# Altium schematic symbol library ECE Lib 22.SCHLIB: 58 symbols
Pins are listed as number, name and electrical type; pins without a type are passive.

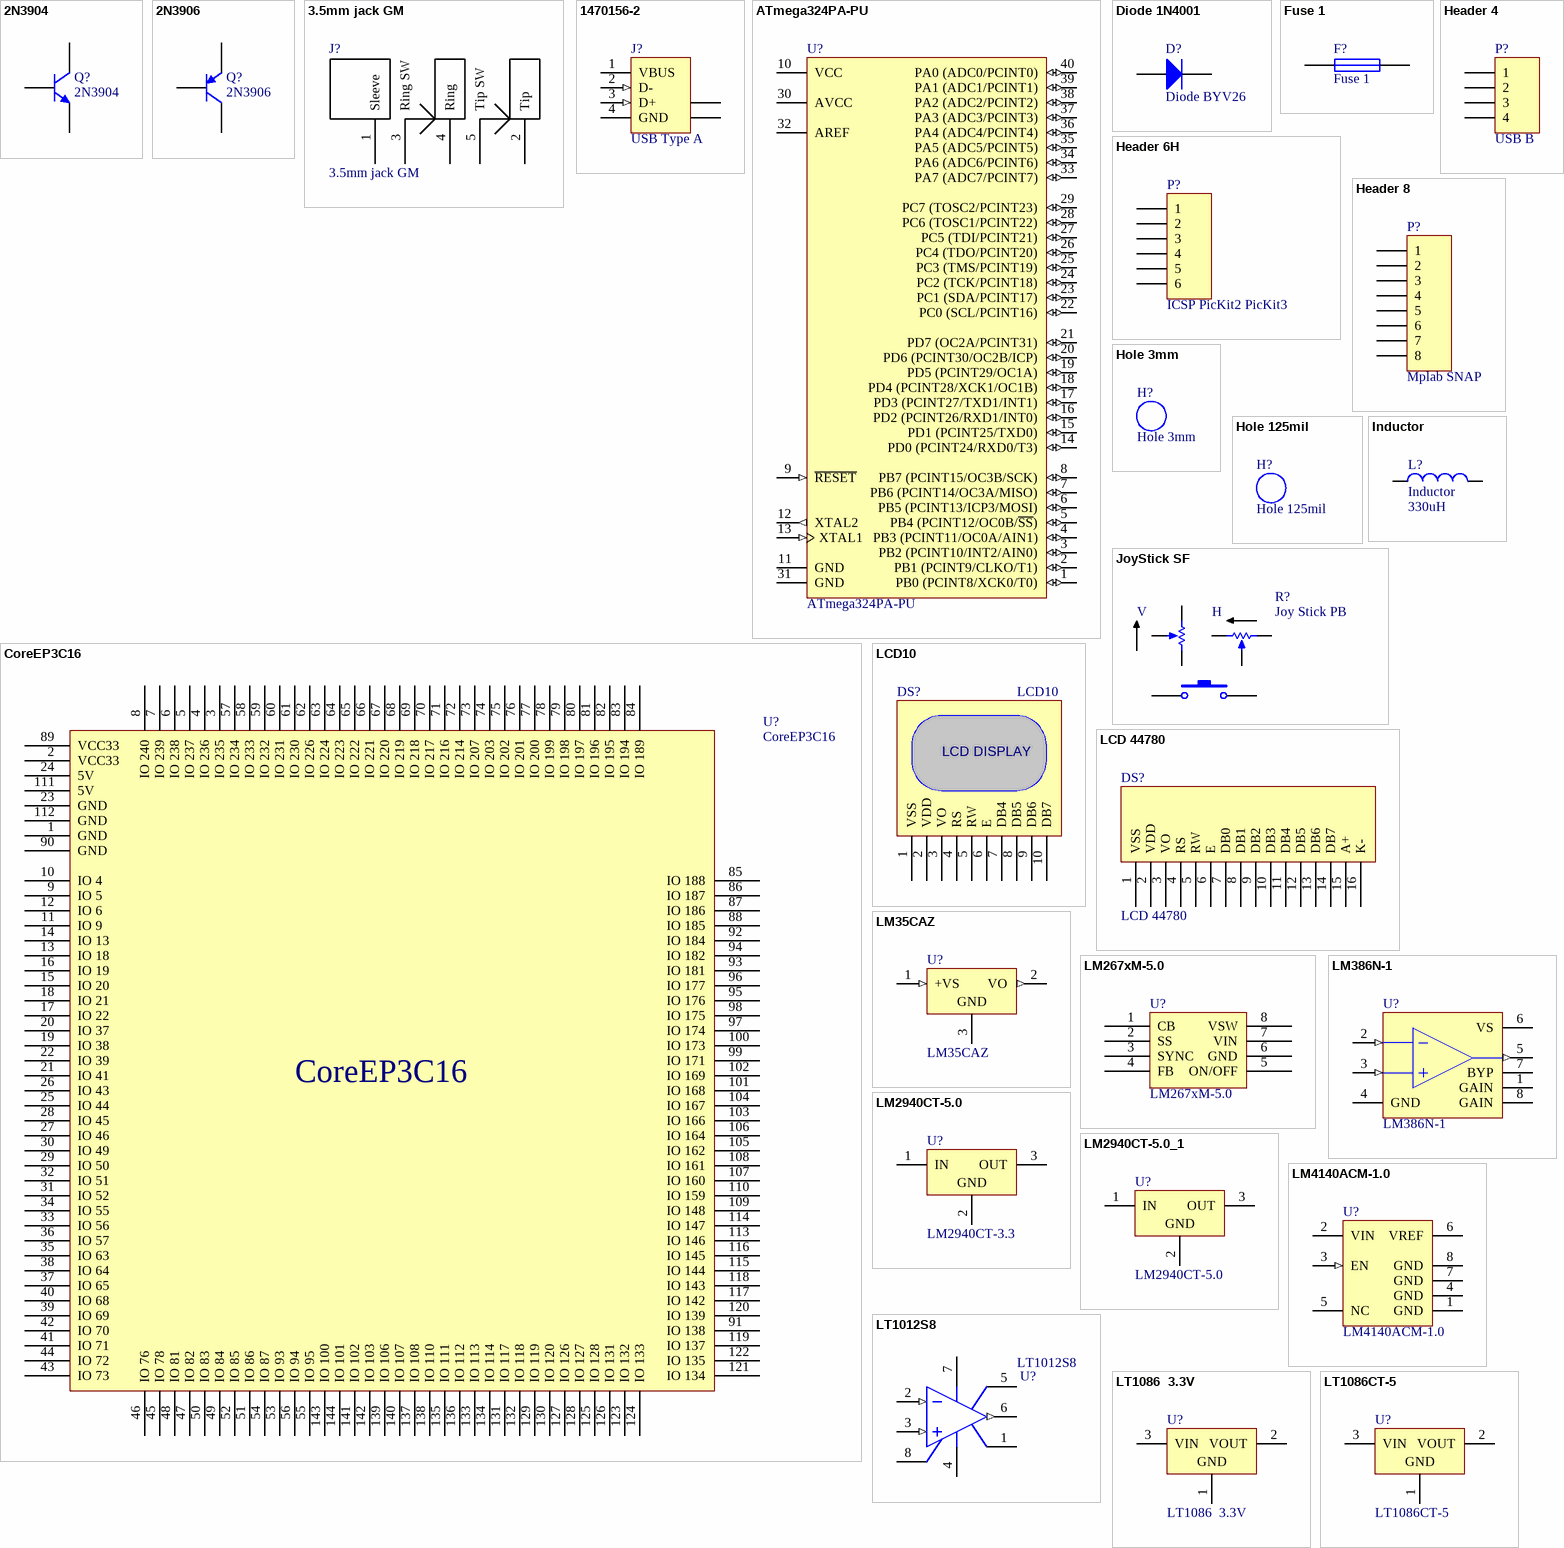
[diagram p0: symbols 2N3904 to LT1086CT-5]

## 2N3904
designator Q?
NPN General Purpose Amplifier; Published: 8-Jun-2000; LatestRevisionDate: 15-Jan-2003; LatestRevisionNote: PCB Footprint 'BCY-W3/D4.7' replaced; DatasheetVersion: 1997; PackageVersion: Sep-1998; PackageReference: TO-92A; Publisher: Altium Limited; PackageDescription: TO, Flat Index; 3 In-Line, Axial Leads; Body Dia. 4.5mm; Leads 0.51 x 0.48 mm (max); ComponentLink1Description: Manufacturer Link; ComponentLink1URL: http://www.fairchildsemi.com/; ComponentLink2Description: Datasheet; ComponentLink2URL: http://www.fairchildsemi.com/ds/2N%2F2N3904.pdf
footprint TO-92A (TO, Flat Index; 3 In-Line, Axial Leads; Body Dia. 4.5mm; Leads 0.51 x 0.48 mm (max))
simulation model 2N3904 (NPN)
signal-integrity model 2N3904
footprint TO92C
pins: 1 E, 2 B, 3 C

## 2N3906
designator Q?
PNP General Purpose Amplifier; Published: 8-Jun-2000; LatestRevisionDate: 15-Jan-2003; LatestRevisionNote: PCB Footprint 'BCY-W3/D4.7' replaced; DatasheetVersion: 1997; PackageVersion: Sep-1998; PackageReference: TO-92A; Publisher: Altium Limited; PackageDescription: TO, Flat Index; 3 In-Line, Axial Leads; Body Dia. 4.5mm; Leads 0.51 x 0.48 mm (max); ComponentLink1Description: Manufacturer Link; ComponentLink1URL: http://www.fairchildsemi.com/; ComponentLink2Description: Datasheet; ComponentLink2URL: http://www.fairchildsemi.com/ds/2N%2F2N3906.pdf
footprint TO-92A (TO, Flat Index; 3 In-Line, Axial Leads; Body Dia. 4.5mm; Leads 0.51 x 0.48 mm (max))
simulation model 2N3906 (PNP)
signal-integrity model 2N3906
footprint TO92C
pins: 1 E, 2 B, 3 C

## 3.5mm jack GM
designator J?
footprint 3.5mm jack GM
footprint 3.5mm jack GM
footprint 3.5mm jack GM
pins: 1 Sleeve, 2 Tip, 3 Ring SW, 4 Ring, 5 Tip SW

## 1470156-2
designator J?, comment USB Type A
USB 1.1, Right Angle, Thru-Hole, B Type, Receptacle, 4 Position, Black; ContactMaterial: Phosphor Bronze; ContactPlating: Gold over Nickel; TerminationLength: 3.00mm [0.118in.]; PCB_Layout: Complies with manufacturer's recommendation.; DrillSize: Corresponds to nominal value.; PanelGround: Without; Published: 15-Jul-2004; DatasheetDocument: 02-Jun-2001; PackageDocument: 02-Jun-2001; PackageReference: 1470156; Publisher: Altium Limited; HousingMaterial: Glass-Filled Thermoplastic; ComponentLink1Description: Manufacturer Link; ComponentLink1URL: http://www.tycoelectronics.com/; ComponentLink2Description: Packaging Specification; ComponentLink2URL: http://ecommas.tycoelectronics.com/commerce/DocumentDelivery/DDEController?Action=showdoc&DocId=Customer+Drawing%7F1470156%7FO%7Ftif%7FEnglish%7FC_1470156_O.tif
footprint 1470156 (Connector; USB1.1, Type B, Thru-Hole; 4 Position; Right Angle)
signal-integrity model USB1.1
pins: 1 VBUS (power) "Power", 2 D- (in) "-DATA", 3 D+ (in) "+DATA", 4 GND (power) "Ground", 5 SHLD "Shield", 6 SHLD "Shield"

## ATmega324PA-PU
designator U?
8-bit AVR Microcontroller, 32KB Flash, 1KB EEPROM, 2KB SRAM, 40-pin PDIP, Industrial Grade (-40°C to 85°C); DatasheetVersion: revC, Jun-2011; PackageVersion: revB, Sep-2001; PackageReference: 40P6; PackageDescription: 40-lead (0.600"/15.24mm Wide) Plastic Dual Inline Package (PDIP); Code_JEDEC: MS-011-AC; ComponentLink1Description: Manufacturer URL; ComponentLink1URL: http://www.atmel.com/; ComponentLink2Description: ATmega164A/164PA/324A/324PA/644A/644PA/1284/1284P Datasheet; ComponentLink2URL: http://www.atmel.com/dyn/resources/prod_documents/doc8272.pdf; ComponentLink3Description: ATmega164A/164PA/324A/324PA/644A/644PA/1284/1284P Summary; ComponentLink3URL: http://www.atmel.com/dyn/resources/prod_documents/8272S.pdf
footprint 40P6 (DIP, 40-Leads, Row Spacing 15.24mm, Pitch 2.54mm, Body 52.2x13.95mm)
pins: 1 PB0 (PCINT8/XCK0/T0) (io), 2 PB1 (PCINT9/CLKO/T1) (io), 3 PB2 (PCINT10/INT2/AIN0) (io), 4 PB3 (PCINT11/OC0A/AIN1) (io), 5 PB4 (PCINT12/OC0B/~{SS}) (io), 6 PB5 (PCINT13/ICP3/MOSI) (io), 7 PB6 (PCINT14/OC3A/MISO) (io), 8 PB7 (PCINT15/OC3B/SCK) (io), 9 ~{RESET} (in), 10 VCC (power), 11 GND (power), 12 XTAL2 (out), 13 XTAL1 (in), 14 PD0 (PCINT24/RXD0/T3) (io), 15 PD1 (PCINT25/TXD0) (io), 16 PD2 (PCINT26/RXD1/INT0) (io), 17 PD3 (PCINT27/TXD1/INT1) (io), 18 PD4 (PCINT28/XCK1/OC1B) (io), 19 PD5 (PCINT29/OC1A) (io), 20 PD6 (PCINT30/OC2B/ICP) (io), 21 PD7 (OC2A/PCINT31) (io), 22 PC0 (SCL/PCINT16) (io), 23 PC1 (SDA/PCINT17) (io), 24 PC2 (TCK/PCINT18) (io), 25 PC3 (TMS/PCINT19) (io), 26 PC4 (TDO/PCINT20) (io), 27 PC5 (TDI/PCINT21) (io), 28 PC6 (TOSC1/PCINT22) (io), 29 PC7 (TOSC2/PCINT23) (io), 30 AVCC (power), 31 GND (power), 32 AREF (power), 33 PA7 (ADC7/PCINT7) (io), 34 PA6 (ADC6/PCINT6) (io), 35 PA5 (ADC5/PCINT5) (io), 36 PA4 (ADC4/PCINT4) (io), 37 PA3 (ADC3/PCINT3) (io), 38 PA2 (ADC2/PCINT2) (io), 39 PA1 (ADC1/PCINT1) (io), 40 PA0 (ADC0/PCINT0) (io)

## CoreEP3C16
designator U?
footprint CoreEP3C16
pins: 1 GND, 2 VCC33, 3 IO 235, 4 IO 236, 5 IO 237, 6 IO 238, 7 IO 239, 8 IO 240, 9 IO 5, 10 IO 4, 11 IO 9, 12 IO 6, 13 IO 18, 14 IO 13, 15 IO 20, 16 IO 19, 17 IO 22, 18 IO 21, 19 IO 38, 20 IO 37, 21 IO 41, 22 IO 39, 23 GND, 24 5V, 25 IO 44, 26 IO 43, 27 IO 46, 28 IO 45, 29 IO 50, 30 IO 49, 31 IO 52, 32 IO 51, 33 IO 56, 34 IO 55, 35 IO 63, 36 IO 57, 37 IO 65, 38 IO 64, 39 IO 69, 40 IO 68, 41 IO 71, 42 IO 70, 43 IO 73, 44 IO 72, 45 IO 78, 46 IO 76, 47 IO 82, 48 IO 81, 49 IO 84, 50 IO 83, 51 IO 86, 52 IO 85, 53 IO 93, 54 IO 87, 55 IO 95, 56 IO 94, 57 IO 234, 58 IO 233, 59 IO 232, 60 IO 231, 61 IO 230, 62 IO 226, 63 IO 224, 64 IO 223, 65 IO 222, 66 IO 221, 67 IO 220, 68 IO 219, 69 IO 218, 70 IO 217, 71 IO 216, 72 IO 214, 73 IO 207, 74 IO 203, 75 IO 202, 76 IO 201, 77 IO 200, 78 IO 199, 79 IO 198, 80 IO 197, 81 IO 196, 82 IO 195, 83 IO 194, 84 IO 189, 85 IO 188, 86 IO 187, 87 IO 186, 88 IO 185, 89 VCC33, 90 GND, 91 IO 138, 92 IO 184, 93 IO 181, 94 IO 182, 95 IO 176, 96 IO 177, 97 IO 174, 98 IO 175, 99 IO 171, 100 IO 173, 101 IO 168, 102 IO 169, 103 IO 166, 104 IO 167, 105 IO 162, 106 IO 164, 107 IO 160, 108 IO 161, 109 IO 148, 110 IO 159, 111 5V, 112 GND, 113 IO 146, 114 IO 147, 115 IO 144, 116 IO 145, 117 IO 142, 118 IO 143, 119 IO 137, 120 IO 139, 121 IO 134, 122 IO 135, 123 IO 132, 124 IO 133, 125 IO 128, 126 IO 131, 127 IO 126, 128 IO 127, 129 IO 119, 130 IO 120, 131 IO 117, 132 IO 118, 133 IO 113, 134 IO 114, 135 IO 111, 136 IO 112, 137 IO 108, 138 IO 110, 139 IO 106, 140 IO 107, 141 IO 102, 142 IO 103, 143 IO 100, 144 IO 101

## Diode 1N4001
designator D?, comment Diode BYV26
1 Amp General Purpose Rectifier; Published: 8-Jun-2000; LatestRevisionDate: 17-Jul-2002; LatestRevisionNote: Re-released for DXP Platform.; DatasheetVersion: 1998; PackageVersion: Aug-1999; PackageReference: DO-41; Publisher: Altium Limited; Code_JEDEC: DO-204-AL; ComponentLink1Description: Manufacturer Link; ComponentLink1URL: http://www.fairchildsemi.com/; ComponentLink2Description: Datasheet; ComponentLink2URL: http://www.fairchildsemi.com/ds/1N%2F1N4001.pdf
footprint DIO10.46-5.3x2.8 (Diode, Axial; Body 5.2 x 2.7 mm (LxDia. max), Lead Dia. 0.86 mm (max))
simulation model 1N4001 (DIODE)
signal-integrity model 1N4001
footprint DO214 (DO-214-AC/SMA; 2 C-Bend Leads; Body 5.3 x 2.6 mm, inc. leads (LxW))
pins: 1 A, 2 K

## Fuse 1
designator F?
Fuse; Published: 8-Jun-2000; LatestRevisionDate: 17-Jul-2002; LatestRevisionNote: Re-released for DXP Platform.; PackageReference: PIN-W2/E2.8; Publisher: Altium Limited; PackageDescription: Thru-Hole; 2 Leads
footprint PIN-W2/E2.8 (Thru-Hole; 2 Leads)
simulation model FUSE (Spice Subcircuit)
footprint Fuse Clip
pins: 1, 2

## Header 4
designator P?, comment USB B
LatestRevisionDate: 17-Jul-2002; LatestRevisionNote: Re-released for DXP Platform.; Publisher: Altium Limited
footprint HDR1X4 (Connector; Header; 4 Position)
signal-integrity model Connector
footprint USB-B
footprint USB-B
pins: 1, 2, 3, 4

## Header 6H
designator P?, comment ICSP PicKit2 PicKit3
Header, 6-Pin, Right Angle; LatestRevisionDate: 17-Jul-2002; LatestRevisionNote: Re-released for DXP Platform.; Publisher: Altium Limited
footprint HDR1X6H (Connector; Header; 6 Position; Right Angle)
signal-integrity model Connector
pins: 1, 2, 3, 4, 5, 6

## Header 8
designator P?, comment Mplab SNAP
Header, 8-Pin; LatestRevisionDate: 17-Jul-2002; LatestRevisionNote: Re-released for DXP Platform.; Publisher: Altium Limited
footprint HDR1X8 (Connector; Header; 8 Position)
signal-integrity model Connector
pins: 1, 2, 3, 4, 5, 6, 7, 8

## Hole 3mm
designator H?
footprint Hole 3mm (Footprint not found)

## Hole 125mil
designator H?
footprint Hole 125mil

## Inductor
designator L?  value 330uH
Code_IEC: 1005; Published: 8-Jun-2000; LatestRevisionDate: 29-May-2009; LatestRevisionNote: IPC-7351 Footprint Added.; PackageReference: 0402-A; Publisher: Altium Limited; PackageDescription: Chip Inductor; Code_JEITA: 0402
footprint INDC1005AL (Chip Inductor, Body 1.0x0.5mm, IPC High Density)
footprint INDC1608L (Chip Inductor, Body 1.6x0.8mm, IPC High Density)
footprint INDC2012L (Chip Inductor, Body 2.0x1.2mm, IPC High Density)
footprint INDC0603L (Chip Inductor, Body 0.6x0.3mm, IPC High Density)
footprint INDC3216AL (Chip Inductor, Body 3.2x1.6mm, IPC High Density)
footprint INDC4532L (Chip Inductor, Body 4.5x3.2mm, IPC High Density)
simulation model INDUCTOR (Inductor)
signal-integrity model Inductor
footprint Inductor 330
footprint SPD73R-334M
pins: 1, 2

## JoyStick SF
designator R?, comment Joy Stick PB
footprint JoyStick SF
pins: 1 TOP, 2 TAP, 3 BOT, 4 BOT, 5 TAP, 6 TOP, 7, 8
text: V; H

## LCD10
designator DS?
footprint HDR1X10 (Connector; Header; 10 Position)
pins: 1 VSS, 2 VDD, 3 VO, 4 RS, 5 RW, 6 E, 7 DB4, 8 DB5, 9 DB6, 10 DB7
text: LCD DISPLAY

## LCD 44780
designator DS?
footprint LCD 4x20
footprint OLED 16x2
pins: 1 VSS, 2 VDD, 3 VO, 4 RS, 5 RW, 6 E, 7 DB0, 8 DB1, 9 DB2, 10 DB3, 11 DB4, 12 DB5, 13 DB6, 14 DB7, 15 A+, 16 K-

## LM35CAZ
designator U?
Precision Centigrade Temperature Sensor, 3-pin TO-92; Manufacturer: National Semiconductor; PackageTopMarking: NSXYTT*LM35*CAZ; PowerWise: N; CompType: Temp Sensor IC; Published: 4-Dec-2008; LatestRevisionDate: 15-Jul-2009; LatestRevisionNote: Sch pins 1 & 3 reversed.; DatasheetVersion: Nov-2000; PackageVersion: revG, Sep-2000; PackageReference: Z03A; Publisher: Altium Limited; PackageDescription: TO-92, Molded, 3 Lead; Supplier 1: Farnell; Supplier Part Number 1: 9494529; PartNumber: LM35CAZ; RoHS: N; PinCount: 3; Code_JEDEC: TO-226-AA; ComponentLink1Description: LM35 Datasheet; ComponentLink1URL: http://www.national.com/ds/LM/LM35.pdf; ComponentLink2Description: LM35 Web Page; ComponentLink2URL: http://www.national.com/pf/LM/LM35.html; ComponentLink3Description: Z03A Package Page; ComponentLink3URL: http://www.national.com/packaging/folders/z03a.html
footprint Z03A (TO, Flat Index; 3 In-Line, Axial Leads; Body Dia. 5mm; Leads 0.55 x 0.50 mm (max))
footprint TO92C
pins: 1 +VS (in), 2 VO (out), 3 GND (power)

## LM267xM-5.0
designator U?
footprint SO-G8
pins: 1 CB, 2 SS, 3 SYNC, 4 FB, 5 ON/OFF, 6 GND, 7 VIN, 8 VSW

## LM386N-1
designator U?
Low-Voltage Audio Power Amplifier; Published: 15-Apr-2002; DatasheetDocument: Sep-1997; PackageDocument: Sep-1997; PackageReference: N08E; Publisher: Altium Limited
footprint N08E (DIP; 8 Leads; Row Spacing 7.62 mm; Pitch 2.54 mm)
footprint DIP-8
pins: 1 GAIN, 2 IN- (in), 3 IN+ (in), 4 GND (power), 5 OUT (out), 6 VS (power), 7 BYP, 8 GAIN

## LM2940CT-5.0
designator U?, comment LM2940CT-3.3
1A Low Dropout Regulator, 3-pin TO-220; Manufacturer: National Semiconductor; PackageTopMarking: NSUZXYTTE#*LM2940CT*-5.0 P+; PowerWise: N; CompType: LDO IC; High-Reliability: Y; DatasheetVersion: Jan-2007; PackageVersion: revL, Jan-1992; PackageReference: T03B; PackageDescription: TO-220, Molded, 3 Lead, Straight; PartNumber: LM2940CT-3.3; RoHS: N; PinCount: 3; ComponentLink1Description: Manufacturer URL; ComponentLink1URL: http://www.national.com/; ComponentLink2Description: LM2940C Datasheet; ComponentLink2URL: http://www.national.com/ds/LM/LM2940C.pdf; ComponentLink3Description: LM2940C Web Page; ComponentLink3URL: http://www.national.com/pf/LM/LM2940C.html; ComponentLink4Description: T03B Package Page; ComponentLink4URL: http://www.national.com/packaging/folders/t03b.html
footprint T03B (TO, Thru-Hole, Vertical, Heatsink Mounted; 3 In-Line Leads; Pitch 2.54 mm)
pins: 1 IN (power), 2 GND (power), 3 OUT (power)

## LM2940CT-5.0_1
designator U?, comment LM2940CT-5.0
1A Low Dropout Regulator, 3-pin TO-220; Manufacturer: National Semiconductor; PackageTopMarking: NSUZXYTTE#*LM2940CT*-5.0 P+; PowerWise: N; CompType: LDO IC; High-Reliability: Y; DatasheetVersion: Jan-2007; PackageVersion: revL, Jan-1992; PackageReference: T03B; PackageDescription: TO-220, Molded, 3 Lead, Straight; PartNumber: LM2940CT-5.0; RoHS: N; PinCount: 3; ComponentLink1Description: Manufacturer URL; ComponentLink1URL: http://www.national.com/; ComponentLink2Description: LM2940C Datasheet; ComponentLink2URL: http://www.national.com/ds/LM/LM2940C.pdf; ComponentLink3Description: LM2940C Web Page; ComponentLink3URL: http://www.national.com/pf/LM/LM2940C.html; ComponentLink4Description: T03B Package Page; ComponentLink4URL: http://www.national.com/packaging/folders/t03b.html
footprint T03B (TO, Thru-Hole, Vertical, Heatsink Mounted; 3 In-Line Leads; Pitch 2.54 mm)
pins: 1 IN (power), 2 GND (power), 3 OUT (power)

## LM4140ACM-1.0
designator U?
Precision Micropower Low Dropout Voltage Reference, 8-pin Narrow SOIC; Manufacturer: National Semiconductor; PackageTopMarking: NSZXTT*4140A*CM1.0; PowerWise: Y; CompType: Voltage Reference IC; Published: 4-Dec-2008; DatasheetVersion: Feb-2005; PackageVersion: revM, May-2009; PackageReference: M08A; Publisher: Altium Limited; PackageDescription: SOIC Narrow, 4.9 x 3.9 x 1.45mm, 8 Lead, 1.27mm Pitch; Supplier 1: Farnell; Supplier Part Number 1: 1286879; PartNumber: LM4140ACM-1.0; RoHS: N; PinCount: 8; Code_JEDEC: MS-012-AA; Code_IPC: SOIC127P600-8; ComponentLink1Description: LM4140 Datasheet; ComponentLink1URL: http://www.national.com/ds/LM/LM4140.pdf; ComponentLink2Description: LM4140 Web Page; ComponentLink2URL: http://www.national.com/pf/LM/LM4140.html; ComponentLink3Description: M08A Package Page; ComponentLink3URL: http://www.national.com/packaging/folders/m08a.html
footprint M08A_N (SOIC, 8-Leads, Body 4.9x3.9mm, Pitch 1.27mm, IPC Medium Density)
footprint M08A_L (SOIC, 8-Leads, Body 4.9x3.9mm, Pitch 1.27mm, IPC High Density)
footprint M08A_M (SOIC, 8-Leads, Body 4.9x3.9mm, Pitch 1.27mm, IPC Low Density)
footprint DIP-8
pins: 1 GND (power), 2 VIN (power), 3 EN (in), 4 GND (power), 5 NC, 6 VREF (power), 7 GND (power), 8 GND (power)

## LT1012S8
designator U?
Picoamp Input Current, Microvolt Offset, Low Noise Operational Amplifier; Published: 8-Jun-2000; LatestRevisionDate: 6-Jun-2005; LatestRevisionNote: Stylized 3D Model Added.; DatasheetDocument: 1995; PackageReference: S8; Publisher: Altium Limited; Code_JEDEC: MS-012-AA; Code_IPC: SO8; ComponentLink1Description: Manufacturer Link; ComponentLink1URL: http://www.linear.com/
footprint S8 (Small Outline; 8 Leads; Body Width 3.9 mm; Pitch 1.27 mm)
3D model S8 (Small Outline; 8 Leads; Body Width 3.9 mm; Pitch 1.27 mm)
simulation model LT1012S8 (SUBCKT)
footprint SO08
pins: 1 VOSTRIM, 2 IN- (in), 3 IN+ (in), 4 V- (power), 5 CMPEN, 6 OUT (out), 7 V+ (power), 8 VOSTRIM

## LT1086  3.3V
designator U?
footprint TO-220
pins: 1 GND (power), 2 VOUT (power), 3 VIN (power)

## LT1086CT-5
designator U?
1.5 A Low Dropout Positive Regulator, 2.55 to 25 V Vin, 5 V Vout, 3-pin FM (T-3), 0 to 150 degC; Manufacturer: Linear Technology; Discrete Pass Element: no; Dropout Voltage(V): 1.3; Iout(mA): 1500; Isupply(mA): 5; Number of Outputs: 1; Output Voltage: 5 V; PSRR(dB): 68; Vin Max(V): 25; Vin Min(V): 2.55; DatasheetVersion: Rev. F; PackageVersion: Jun-10; PackageReference: T-3; PackageDescription: 3-Pin Plastic TO-220, Body 10.2235 x 4.3815 mm, Pitch 2.54 mm; Supplier 1: Digi-Key; Supplier Part Number 1: LT1086CT-5-ND; Supplier 2: Newark; Supplier Part Number 2: 57M1554; RoHS: FALSE; Mounting Technology: Through Hole; PartNumber: LT1086CT-5; ComponentLink1Description: Manufacturer URL; ComponentLink1URL: http://www.linear.com/; ComponentLink2Description: Datasheet; ComponentLink2URL: http://cds.linear.com/docs/en/datasheet/1086ffs.pdf; ComponentLink3Description: Package Specification; ComponentLink3URL: http://cds.linear.com/docs/en/packaging/TO-220_3_05-08-1420.pdf
footprint LT-T-3 (T, 3-Leads, Body 10.55x4.6mm, Pitch 2.54mm)
pins: 1 GND (power), 2 VOUT (power), 3 VIN (power)

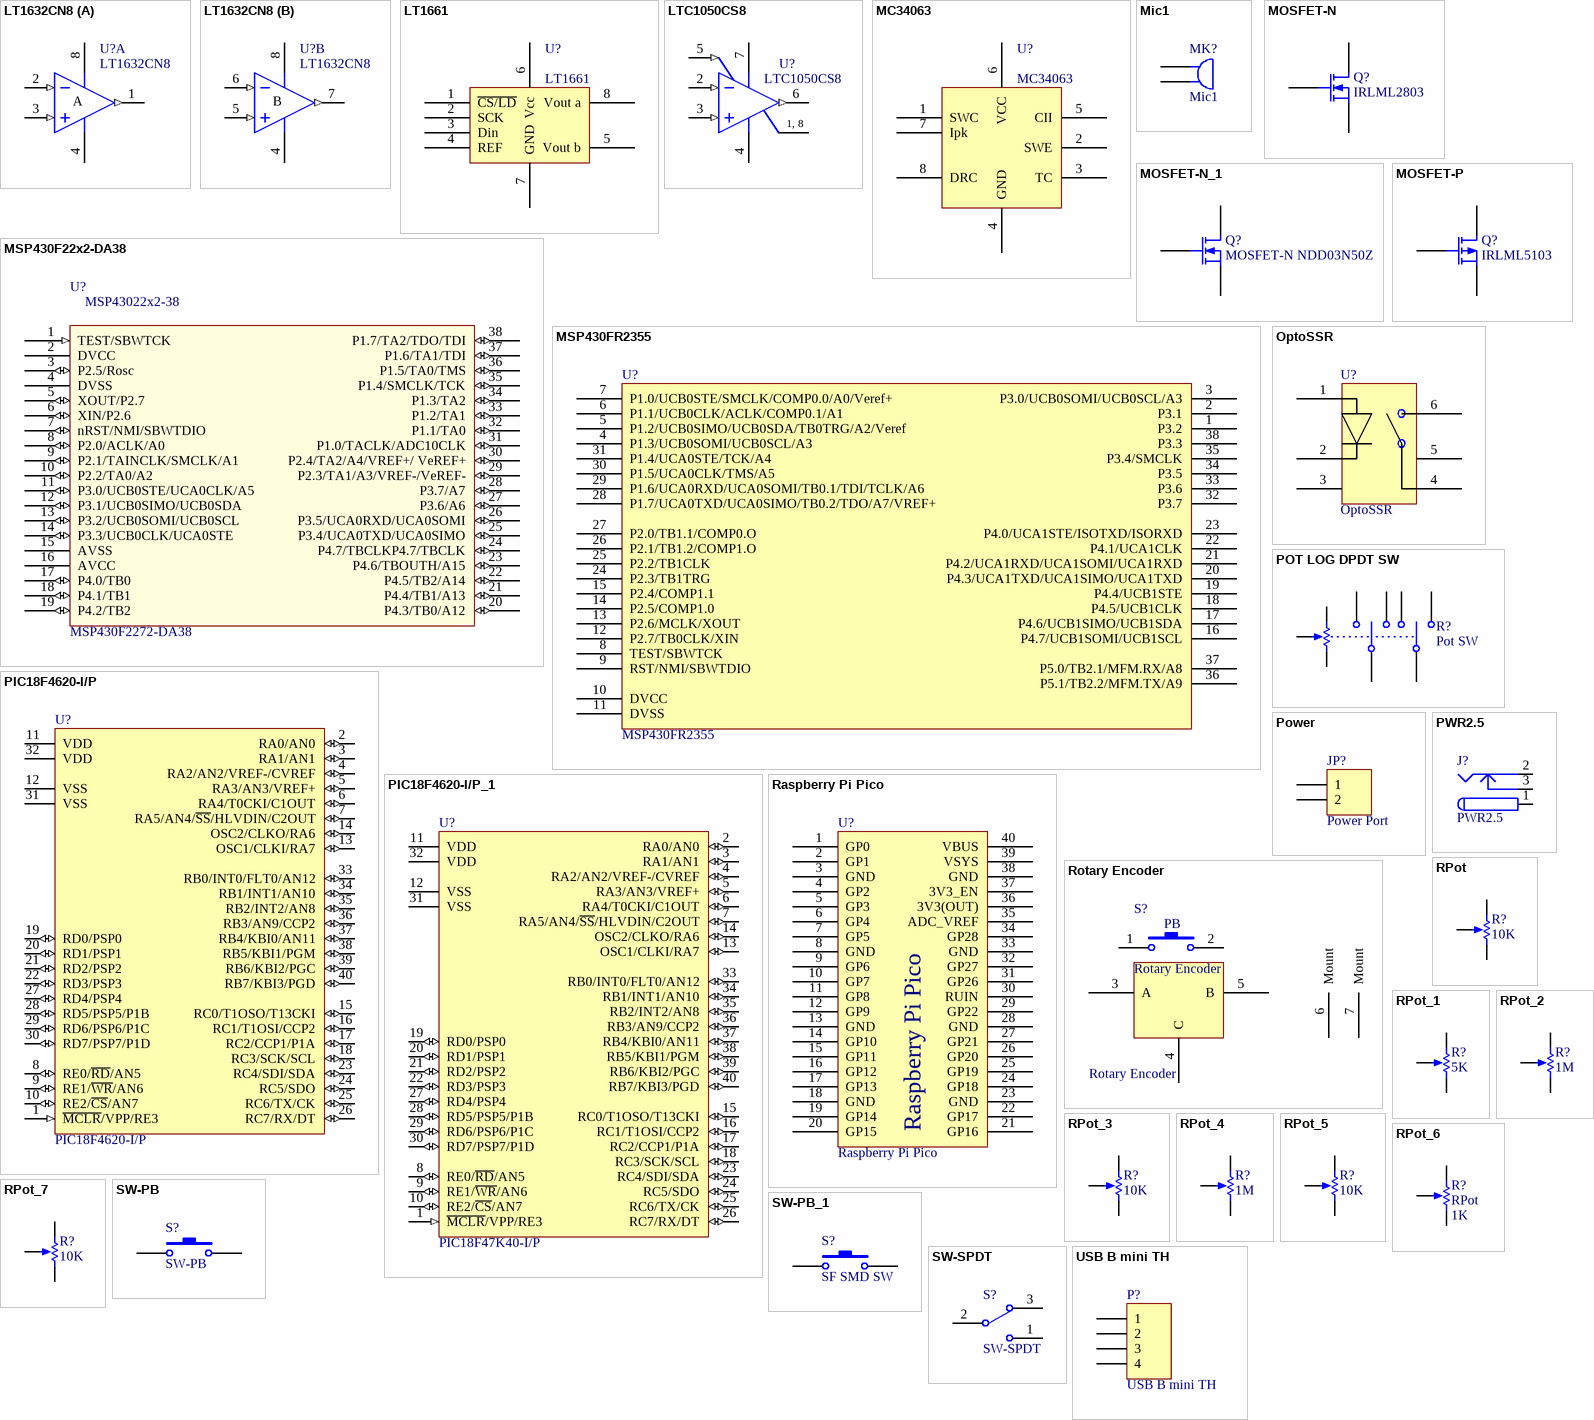
[diagram p1: symbols LT1632CN8 to USB B mini TH]

## LT1632CN8
designator U?
45MHz, 45V/µs, Dual Rail-to-Rail Input and Output Precision Operational Amplifier; Note: 1455; Published: 8-Jun-2000; LatestRevisionDate: 29-May-2009; LatestRevisionNote: Component Body Added.; DatasheetVersion: 1996; PackageVersion: N8 1002; PackageReference: N8; Publisher: Altium Limited; PackageDescription: DIP, Plastic, 8-Pin, Row Spacing 7.62 mm, Pitch 2.54 mm; ComponentLink1Description: Manufacturer Link; ComponentLink1URL: http://www.linear.com/; ComponentLink2Description: Datasheet; ComponentLink2URL: http://www.linear.com/pc/downloadDocument.do?navId=H0,C1,C1154,C1009,C1022,P1642,D3055
footprint N8 (DIP, 8-Leads, Row Spacing 7.62mm, Pitch 2.54mm, Body 9.78x6.48mm)
3D model N8 (DIP, Plastic, 8-Pin, Row Spacing 7.62 mm, Pitch 2.54 mm)
simulation model LT1632 (SUBCKT)
footprint SO08
pins on every part: 4 V- (power), 8 V+ (power)
part A pins: 1 OUT (out), 2 IN- (in), 3 IN+ (in)
part B pins: 5 IN+ (in), 6 IN- (in), 7 OUT (out)
part A text: A
part B text: B

## LT1661
designator U?
footprint Model Name (Footprint not found)
footprint DIP-8 (DIP; 8 Leads; Row Spacing 7.62 mm; Pitch 2.54 mm)
pins: 1 ~{CS/LD}, 2 SCK, 3 Din, 4 REF, 5 Vout b, 6 Vcc, 7 GND, 8 Vout a

## LTC1050CS8
designator U?
Precision Chopper Stabilised Operational Amplifier with Internal Capacitors; Note: Pins 1 and 8 are NC (not internally connected) pins.; Published: 8-Jun-2000; LatestRevisionDate: 6-Jun-2005; LatestRevisionNote: Stylized 3D Model Added.; DatasheetDocument: 1996; PackageReference: S8; Publisher: Altium Limited; Code_JEDEC: MS-012-AA; Code_IPC: SO8; ComponentLink1Description: Manufacturer Link; ComponentLink1URL: http://www.linear.com/
footprint S8 (Small Outline; 8 Leads; Body Width 3.9 mm; Pitch 1.27 mm)
3D model S8 (Small Outline; 8 Leads; Body Width 3.9 mm; Pitch 1.27 mm)
simulation model LTC1050 (SUBCKT)
footprint SO08
pins: 1 NC, 2 IN- (in), 3 IN+ (in), 4 V- (power), 5 EXT CLK (in), 6 OUT (out), 7 V+ (power), 8 NC
text: 1, 8

## MC34063
designator U?
footprint PDIP300-8 (DIP, Plastic; 8 Leads; Row Spacing 7.62 mm; Pitch 2.54 mm)
footprint SOIC-8
pins: 1 SWC, 2 SWE, 3 TC, 4 GND, 5 CII, 6 VCC, 7 Ipk, 8 DRC

## Mic1
designator MK?
Microphone; Published: 24-Mar-1999; LatestRevisionDate: 17-Jul-2002; LatestRevisionNote: Re-released for DXP Platform.; PackageReference: PIN2; Publisher: Altium Limited
footprint PIN2 (Microphone; 2 Leads)
footprint MP33AB01
pins: 1, 2

## MOSFET-N
designator Q?, comment IRLML2803
N-Channel MOSFET; Published: 8-Jun-2000; Revision: July-2002: Re-released for DXP Platform.; Publisher: Altium Limited
footprint BCY-W3/H.8 (TO Package, Flat Index; 3 In-Line, Axial Leads; Body Dia. 4.6mm)
simulation model NMOS (MOSFET-N)
footprint SO-G3
pins: 1 G, 2 S, 3 D

## MOSFET-N_1
designator Q?, comment MOSFET-N NDD03N50Z
N-Channel MOSFET; Published: 8-Jun-2000; LatestRevisionDate: 17-Jul-2002; LatestRevisionNote: Re-released for DXP Platform.; PackageVersion: 1995/1996; PackageReference: E3; Publisher: Altium Limited
footprint BCY-W3/B.8 (TO, Flat Index; 3 In-Line, Axial Leads; Body Dia. 4.6mm; Lead Dia. 0.5 mm (max))
simulation model NMOS (MOSFET-N)
footprint TO-220-Sinked
footprint TO-220 - ADJ
footprint TO-220
footprint NDD03N50Z
pins: 1 G, 2 S, 3 D

## MOSFET-P
designator Q?, comment IRLML5103
P-Channel MOSFET; Published: 8-Jun-2000; LatestRevisionDate: 17-Jul-2002; LatestRevisionNote: Re-released for DXP Platform.; PackageVersion: 1995/1996; PackageReference: E3; Publisher: Altium Limited; PackageDescription: TO, Flat Index; 3 In-Line, Axial Leads; Body Dia. 4.6mm; Lead Dia. 0.5 mm (max)
footprint E3 (TO, Flat Index; 3 In-Line, Axial Leads; Body Dia. 4.6mm; Lead Dia. 0.5 mm (max))
simulation model PMOS (MOSFET-P)
footprint SO-G3
pins: 1 G, 2 S, 3 D

## MSP430F22x2-DA38
designator U?, comment MSP430F2272-DA38
Supplier 1: Digi-Key; Supplier Part Number 1: 296-21456-1-ND
footprint DA38 (Shrink Small Outline; 38 Leads; Body Width 6.2 mm; Pitch 0.65 mm)
footprint DIP38
pins: 1 TEST/SBWTCK (in), 2 DVCC (power), 3 P2.5/Rosc (io), 4 DVSS (power), 5 XOUT/P2.7 (io), 6 XIN/P2.6 (io), 7 nRST/NMI/SBWTDIO (io), 8 P2.0/ACLK/A0 (io), 9 P2.1/TAINCLK/SMCLK/A1 (io), 10 P2.2/TA0/A2 (io), 11 P3.0/UCB0STE/UCA0CLK/A5 (io), 12 P3.1/UCB0SIMO/UCB0SDA (io), 13 P3.2/UCB0SOMI/UCB0SCL (io), 14 P3.3/UCB0CLK/UCA0STE (io), 15 AVSS (power), 16 AVCC (power), 17 P4.0/TB0 (io), 18 P4.1/TB1 (io), 19 P4.2/TB2 (io), 20 P4.3/TB0/A12 (io), 21 P4.4/TB1/A13 (io), 22 P4.5/TB2/A14 (io), 23 P4.6/TBOUTH/A15 (io), 24 P4.7/TBCLKP4.7/TBCLK (io), 25 P3.4/UCA0TXD/UCA0SIMO (io), 26 P3.5/UCA0RXD/UCA0SOMI (io), 27 P3.6/A6 (io), 28 P3.7/A7 (io), 29 P2.3/TA1/A3/VREF-/VeREF- (io), 30 P2.4/TA2/A4/VREF+/ VeREF+ (io), 31 P1.0/TACLK/ADC10CLK (io), 32 P1.1/TA0 (io), 33 P1.2/TA1 (io), 34 P1.3/TA2 (io), 35 P1.4/SMCLK/TCK (io), 36 P1.5/TA0/TMS (io), 37 P1.6/TA1/TDI (io), 38 P1.7/TA2/TDO/TDI (io)
text: MSP43022x2-38

## MSP430FR2355
designator U?
footprint MSP430FR2355
pins: 1 P3.2, 2 P3.1, 3 P3.0/UCB0SOMI/UCB0SCL/A3, 4 P1.3/UCB0SOMI/UCB0SCL/A3, 5 P1.2/UCB0SIMO/UCB0SDA/TB0TRG/A2/Veref, 6 P1.1/UCB0CLK/ACLK/COMP0.1/A1, 7 P1.0/UCB0STE/SMCLK/COMP0.0/A0/Veref+, 8 TEST/SBWTCK, 9 RST/NMI/SBWTDIO, 10 DVCC, 11 DVSS, 12 P2.7/TB0CLK/XIN, 13 P2.6/MCLK/XOUT, 14 P2.5/COMP1.0, 15 P2.4/COMP1.1, 16 P4.7/UCB1SOMI/UCB1SCL, 17 P4.6/UCB1SIMO/UCB1SDA, 18 P4.5/UCB1CLK, 19 P4.4/UCB1STE, 20 P4.3/UCA1TXD/UCA1SIMO/UCA1TXD, 21 P4.2/UCA1RXD/UCA1SOMI/UCA1RXD, 22 P4.1/UCA1CLK, 23 P4.0/UCA1STE/ISOTXD/ISORXD, 24 P2.3/TB1TRG, 25 P2.2/TB1CLK, 26 P2.1/TB1.2/COMP1.O, 27 P2.0/TB1.1/COMP0.O, 28 P1.7/UCA0TXD/UCA0SIMO/TB0.2/TDO/A7/VREF+, 29 P1.6/UCA0RXD/UCA0SOMI/TB0.1/TDI/TCLK/A6, 30 P1.5/UCA0CLK/TMS/A5, 31 P1.4/UCA0STE/TCK/A4, 32 P3.7, 33 P3.6, 34 P3.5, 35 P3.4/SMCLK, 36 P5.1/TB2.2/MFM.TX/A9, 37 P5.0/TB2.1/MFM.RX/A8, 38 P3.3

## OptoSSR
designator U?
footprint DIP-6 (DIP, 6-Pin, Row Spacing 7.62 mm, Pitch 2.54 mm)
pins: 1, 2, 3, 4, 5, 6

## PIC18F4620-I/P
designator U?
Enhanced Flash Microcontroller with 10-Bit A/D and nanoWatt Technology, 64K Flash, 40-Pin PDIP, Industrial Temperature Range; DatasheetVersion: revE, May-2008; PackageVersion: revBB, Aug-2009; PackageReference: PDIP600-P40; PackageDescription: 40-Lead Plastic Dual In-Line (P) - 600 mil Body [PDIP]; ComponentLink1Description: Manufacturer URL; ComponentLink1URL: http://www.microchip.com/; ComponentLink2Description: Datasheet; ComponentLink2URL: http://ww1.microchip.com/downloads/en/DeviceDoc/39626e.pdf; ComponentLink3Description: Package Specification; ComponentLink3URL: http://www.microchip.com/stellent/groups/techpub_sg/documents/packagingspec/en012702.pdf
footprint PDIP600-P40 (DIP, 40-Leads, Row Spacing 15.24mm, Pitch 2.54mm, Body 51.8x13.5mm)
pins: 1 ~{MCLR}/VPP/RE3 (in), 2 RA0/AN0 (io), 3 RA1/AN1 (io), 4 RA2/AN2/VREF-/CVREF (io), 5 RA3/AN3/VREF+ (io), 6 RA4/T0CKI/C1OUT (io), 7 RA5/AN4/~{SS}/HLVDIN/C2OUT (io), 8 RE0/~{RD}/AN5 (io), 9 RE1/~{WR}/AN6 (io), 10 RE2/~{CS}/AN7 (io), 11 VDD (power), 12 VSS (power), 13 OSC1/CLKI/RA7 (io), 14 OSC2/CLKO/RA6 (io), 15 RC0/T1OSO/T13CKI (io), 16 RC1/T1OSI/CCP2 (io), 17 RC2/CCP1/P1A (io), 18 RC3/SCK/SCL (io), 19 RD0/PSP0 (io), 20 RD1/PSP1 (io), 21 RD2/PSP2 (io), 22 RD3/PSP3 (io), 23 RC4/SDI/SDA (io), 24 RC5/SDO (io), 25 RC6/TX/CK (io), 26 RC7/RX/DT (io), 27 RD4/PSP4 (io), 28 RD5/PSP5/P1B (io), 29 RD6/PSP6/P1C (io), 30 RD7/PSP7/P1D (io), 31 VSS (power), 32 VDD (power), 33 RB0/INT0/FLT0/AN12 (io), 34 RB1/INT1/AN10 (io), 35 RB2/INT2/AN8 (io), 36 RB3/AN9/CCP2 (io), 37 RB4/KBI0/AN11 (io), 38 RB5/KBI1/PGM (io), 39 RB6/KBI2/PGC (io), 40 RB7/KBI3/PGD (io)

## PIC18F4620-I/P_1
designator U?, comment PIC18F47K40-I/P
Enhanced Flash Microcontroller with 10-Bit A/D and nanoWatt Technology, 64K Flash, 40-Pin PDIP, Industrial Temperature Range; DatasheetVersion: revE, May-2008; PackageVersion: revBB, Aug-2009; PackageReference: PDIP600-P40; PackageDescription: 40-Lead Plastic Dual In-Line (P) - 600 mil Body [PDIP]; ComponentLink1Description: Manufacturer URL; ComponentLink1URL: http://www.microchip.com/; ComponentLink2Description: Datasheet; ComponentLink2URL: http://ww1.microchip.com/downloads/en/DeviceDoc/39626e.pdf; ComponentLink3Description: Package Specification; ComponentLink3URL: http://www.microchip.com/stellent/groups/techpub_sg/documents/packagingspec/en012702.pdf
footprint PDIP600-P40 (DIP, 40-Leads, Row Spacing 15.24mm, Pitch 2.54mm, Body 51.8x13.5mm)
footprint DIP-40
pins: 1 ~{MCLR}/VPP/RE3 (in), 2 RA0/AN0 (io), 3 RA1/AN1 (io), 4 RA2/AN2/VREF-/CVREF (io), 5 RA3/AN3/VREF+ (io), 6 RA4/T0CKI/C1OUT (io), 7 RA5/AN4/~{SS}/HLVDIN/C2OUT (io), 8 RE0/~{RD}/AN5 (io), 9 RE1/~{WR}/AN6 (io), 10 RE2/~{CS}/AN7 (io), 11 VDD (power), 12 VSS (power), 13 OSC1/CLKI/RA7 (io), 14 OSC2/CLKO/RA6 (io), 15 RC0/T1OSO/T13CKI (io), 16 RC1/T1OSI/CCP2 (io), 17 RC2/CCP1/P1A (io), 18 RC3/SCK/SCL (io), 19 RD0/PSP0 (io), 20 RD1/PSP1 (io), 21 RD2/PSP2 (io), 22 RD3/PSP3 (io), 23 RC4/SDI/SDA (io), 24 RC5/SDO (io), 25 RC6/TX/CK (io), 26 RC7/RX/DT (io), 27 RD4/PSP4 (io), 28 RD5/PSP5/P1B (io), 29 RD6/PSP6/P1C (io), 30 RD7/PSP7/P1D (io), 31 VSS (power), 32 VDD (power), 33 RB0/INT0/FLT0/AN12 (io), 34 RB1/INT1/AN10 (io), 35 RB2/INT2/AN8 (io), 36 RB3/AN9/CCP2 (io), 37 RB4/KBI0/AN11 (io), 38 RB5/KBI1/PGM (io), 39 RB6/KBI2/PGC (io), 40 RB7/KBI3/PGD (io)

## POT LOG DPDT SW
designator R?, comment Pot SW
footprint POT LOG DPDT SW
pins: 1, 2, 3, 4, 5, 6, 7 TOP, 8 TAP, 9 BOT

## Power
designator JP?, comment Power Port
footprint Power
footprint CON2screw
pins: 1, 2

## PWR2.5
designator J?
Low Voltage Power Supply Connector; Published: 17-Dec-2003; DatasheetDocument: 09-May-2002; Publisher: Altium Limited; ComponentLink1Description: Manufacturer Link; ComponentLink1URL: http://domino.kycon.com/internet/Products.html
signal-integrity model Connector
footprint Power 2.5 fixed
pins: 1 1A (power), 2 2A (power), 3 3A (power)

## Raspberry Pi Pico
designator U?
footprint Raspberry Pi Pico
pins: 1 GP0, 2 GP1, 3 GND, 4 GP2, 5 GP3, 6 GP4, 7 GP5, 8 GND, 9 GP6, 10 GP7, 11 GP8, 12 GP9, 13 GND, 14 GP10, 15 GP11, 16 GP12, 17 GP13, 18 GND, 19 GP14, 20 GP15, 21 GP16, 22 GP17, 23 GND, 24 GP18, 25 GP19, 26 GP20, 27 GP21, 28 GND, 29 GP22, 30 RUIN, 31 GP26, 32 GP27, 33 GND, 34 GP28, 35 ADC_VREF, 36 3V3(OUT), 37 3V3_EN, 38 GND, 39 VSYS, 40 VBUS

## Rotary Encoder
designator S?
footprint Rotary Encoder SF
pins: 1, 2, 3 A, 4 C, 5 B, 6 Mount, 7 Mount
text: PB

## RPot
designator R?, comment value 10K  (hidden comment: RPot_3)
Potentiometer; Sim Note: Enter the Resistance value and the set point into parameter fields.; Set Position: 0.5; Published: 8-Jun-2000; LatestRevisionDate: 17-Jul-2002; LatestRevisionNote: Re-released for DXP Platform.; Publisher: Altium Limited
footprint VR5 (Potentiometer; 3 Leads)
simulation model POT (Potentiometer)
footprint Audio Pot
footprint Audio Pot #2
footprint POT OFFSET 200
pins: 1 TOP, 2 TAP, 3 BOT
1 alternate drawing of the same symbol

## RPot_1
designator R?, comment value 5K  (hidden comment: RPot_5)
Potentiometer; Sim Note: Enter the Resistance value and the set point into parameter fields.; Set Position: 0.5; Published: 8-Jun-2000; LatestRevisionDate: 17-Jul-2002; LatestRevisionNote: Re-released for DXP Platform.; PackageReference: VR5; Publisher: Altium Limited; PackageDescription: Variable Resistor, Thru-Hole; 3 Leads
footprint VR5 (Thru-Hole; 3 Leads)
simulation model POT (Potentiometer)
footprint MPJA 5K Audio Slide Pot
pins: 1 TOP, 2 TAP, 3 BOT
1 alternate drawing of the same symbol

## RPot_2
designator R?, comment value 1M  (hidden comment: RPot_4)
Potentiometer; Sim Note: Enter the Resistance value and the set point into parameter fields.; Set Position: 0.5; Published: 8-Jun-2000; LatestRevisionDate: 17-Jul-2002; LatestRevisionNote: Re-released for DXP Platform.; PackageReference: VR5; Publisher: Altium Limited; PackageDescription: Variable Resistor, Thru-Hole; 3 Leads
footprint VR5 (Thru-Hole; 3 Leads)
simulation model POT (Potentiometer)
footprint CT2260-ND
footprint POT OFFSET 400
pins: 1 TOP, 2 TAP, 3 BOT
1 alternate drawing of the same symbol

## RPot_3
designator R?, comment value 10K  (hidden comment: RPot_1)
Potentiometer; Sim Note: Enter the Resistance value and the set point into parameter fields.; Set Position: 0.5; Published: 8-Jun-2000; LatestRevisionDate: 17-Jul-2002; LatestRevisionNote: Re-released for DXP Platform.; PackageReference: VR5; Publisher: Altium Limited; PackageDescription: Variable Resistor, Thru-Hole; 3 Leads
footprint VR5 (Thru-Hole; 3 Leads)
simulation model POT (Potentiometer)
footprint CT2260-ND
footprint Bourns Blue Pot (Footprint not found)
footprint POT inline
footprint POT inline wide
pins: 1 TOP, 2 TAP, 3 BOT
1 alternate drawing of the same symbol

## RPot_4
designator R?, comment value 1M  (hidden comment: RPot_7)
Potentiometer; Sim Note: Enter the Resistance value and the set point into parameter fields.; Set Position: 0.5; Published: 8-Jun-2000; LatestRevisionDate: 17-Jul-2002; LatestRevisionNote: Re-released for DXP Platform.; PackageReference: VR5; Publisher: Altium Limited; PackageDescription: Variable Resistor, Thru-Hole; 3 Leads
footprint VR5 (Thru-Hole; 3 Leads)
simulation model POT (Potentiometer)
footprint CT2260-ND
pins: 1 TOP, 2 TAP, 3 BOT
1 alternate drawing of the same symbol

## RPot_5
designator R?, comment value 10K  (hidden comment: RPot_2)
Potentiometer; Sim Note: Enter the Resistance value and the set point into parameter fields.; Set Position: 0.5; Published: 8-Jun-2000; LatestRevisionDate: 17-Jul-2002; LatestRevisionNote: Re-released for DXP Platform.; PackageReference: VR5; Publisher: Altium Limited; PackageDescription: Variable Resistor, Thru-Hole; 3 Leads
footprint VR5 (Thru-Hole; 3 Leads)
simulation model POT (Potentiometer)
footprint CT2260-ND
footprint Bourns Blue Pot
footprint POT inline
footprint POT inline wide
footprint POT OFFSET 100_1
pins: 1 TOP, 2 TAP, 3 BOT
1 alternate drawing of the same symbol

## RPot_6
designator R?, comment RPot  value 1K
Potentiometer; Sim Note: Enter the Resistance value and the set point into parameter fields.; Set Position: 0.5; Published: 8-Jun-2000; LatestRevisionDate: 17-Jul-2002; LatestRevisionNote: Re-released for DXP Platform.; PackageReference: VR5; Publisher: Altium Limited; PackageDescription: Variable Resistor, Thru-Hole; 3 Leads
footprint VR5 (Thru-Hole; 3 Leads)
simulation model POT (Potentiometer)
pins: 1 TOP, 2 BOT, 3 TAP
1 alternate drawing of the same symbol

## RPot_7
designator R?, comment value 10K  (hidden comment: RPot_3)
Potentiometer; Sim Note: Enter the Resistance value and the set point into parameter fields.; Set Position: 0.5; Published: 8-Jun-2000; LatestRevisionDate: 17-Jul-2002; LatestRevisionNote: Re-released for DXP Platform.; Publisher: Altium Limited
footprint VR5 (Potentiometer; 3 Leads)
simulation model POT (Potentiometer)
footprint Audio Pot
footprint Audio Pot #2
footprint POT OFFSET 200
footprint Rpot Square in line
pins: 1 TOP, 2 TAP, 3 BOT
1 alternate drawing of the same symbol

## SW-PB
designator S?
DIGIKEY SW400-ND; Published: 24-Mar-1999; LatestRevisionDate: 17-Jul-2002; LatestRevisionNote: Re-released for DXP Platform.; Publisher: Altium Limited
footprint SPST-2 (Switch; 2 Leads)
footprint SW PB
footprint Model Name (Model Description)
footprint SW PB vertical
pins: 1, 2

## SW-PB_1
designator S?, comment SF SMD SW
DIGIKEY SW400-ND; Published: 24-Mar-1999; LatestRevisionDate: 17-Jul-2002; LatestRevisionNote: Re-released for DXP Platform.; Publisher: Altium Limited
footprint SPST-2 (Switch; 2 Leads)
footprint SW PB
footprint SW_SMD
footprint Model Name (Model Description)
pins: 1, 2

## SW-SPDT
designator S?
SPDT Subminiature Toggle Switch, Right Angle Mounting, Vertical Actuation; Published: 24-Mar-1999; LatestRevisionDate: 17-Dec-2003; LatestRevisionNote: Schematic revised, PCB Footprint replaced.; DatasheetVersion: 05-Dec-2000; PackageReference: TL36WW15050; Publisher: Altium Limited; PackageDescription: Switch; 4 Leads; ComponentLink1Description: Manufacturer Link; ComponentLink1URL: http://www.apem.com
footprint TL36WW15050 (Switch; 4 Leads)
footprint SW DPST jameco
pins: 1, 2, 3

## USB B mini TH
designator P?
LatestRevisionDate: 17-Jul-2002; LatestRevisionNote: Re-released for DXP Platform.; Publisher: Altium Limited; Digikey: WM17115-ND
footprint HDR1X4 (Connector; Header; 4 Position)
signal-integrity model Connector
footprint USB0.8-2V5 (Connector; USB Mini-B, Type 2, Thru-Hole; 5 Position; Vertical)
footprint USB B mini Molex
pins: 1, 2, 3, 4

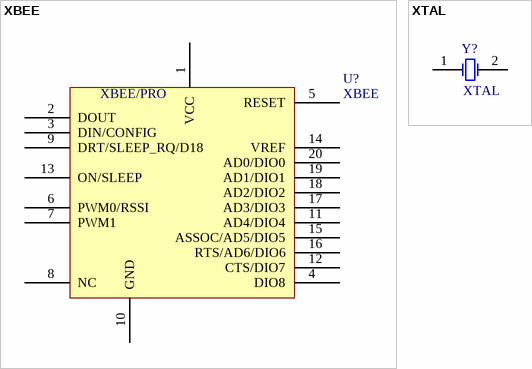
[diagram p2: symbols XBEE to XTAL]

## XBEE
designator U?
footprint XBEE/PRO
pins: 1 VCC, 2 DOUT, 3 DIN/CONFIG, 4 DIO8, 5 RESET, 6 PWM0/RSSI, 7 PWM1, 8 NC, 9 DRT/SLEEP_RQ/D18, 10 GND, 11 AD4/DIO4, 12 CTS/DIO7, 13 ON/SLEEP, 14 VREF, 15 ASSOC/AD5/DIO5, 16 RTS/AD6/DIO6, 17 AD3/DIO3, 18 AD2/DIO2, 19 AD1/DIO1, 20 AD0/DIO0
text: XBEE/PRO

## XTAL
designator Y?
Crystal Oscillator; Published: 8-Jun-2000; LatestRevisionDate: 17-Jul-2002; LatestRevisionNote: Re-released for DXP Platform.; PackageReference: R38; Publisher: Altium Limited; PackageDescription: Crystal, Thru-Hole; 2 Leads; Body 3.1 x 8.2 mm (Dia.xH)
footprint R38 (Crystal, Thru-Hole; 2 Leads; Body 3.1 x 8.2 mm (Dia.xH))
simulation model XTAL (Spice Subcircuit)
footprint HC-49U (Quartz Crystal, Thru-Hole; 2 Leads; Body 11.35 x 4.65 x 13.46 mm (LxWxH max))
pins: 1 OSC1, 2 OSC2